# Altium footprint library Real_Steel_Robotics.PcbLib: 17 footprints (part 2 of 2)
Each footprint in its own frame and in the unit in brackets; x right, y up, seen from the top. Pads: shape width x height; smd on the part's side, far side on the other; paste and mask are expansions set on the pad; w line width, h text height; cw(c..) or ccw(c..) is an arc to the next point about the centre after c.
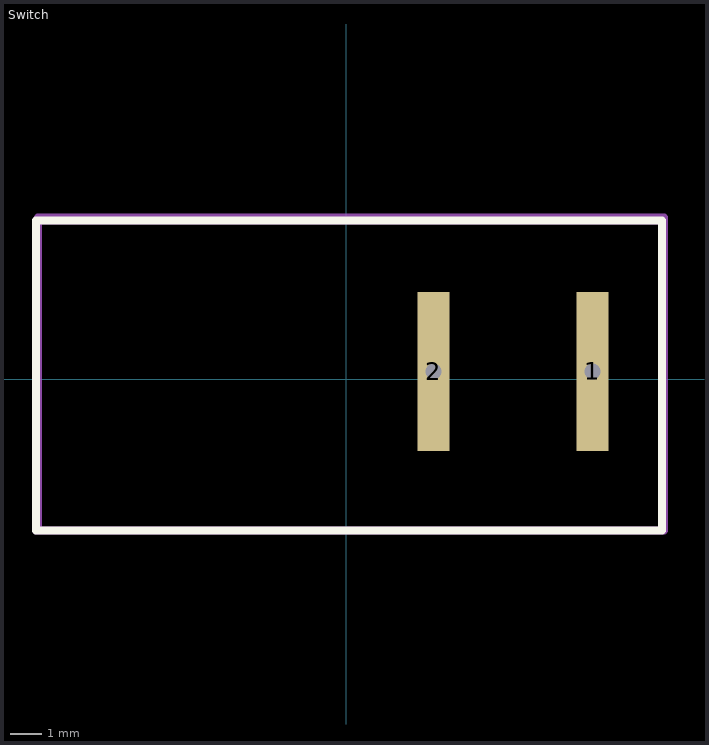
[diagram p1: the footprint, top view; thin cyan lines are the x and y axes]

## Switch [mil]
pads (2):
  rect 40x200 hole 20 square: 1(310,10) 2(110,10)
Top Overlay:
  lines w10: -390,-190 397.4,-190 397.4,200 -390,200 -390,-190
Mechanical 13:
  lines w10: -387.4,-190 400,-190 400,203.7 -387.4,203.7 -387.4,-190
Mechanical 15:
  lines w10: -390,-190 400,-190 400,200 -390,200 -390,-190